# Altium footprint library WA-SMCH.PcbLib: 1 footprints
Each footprint in its own frame and in the unit in brackets; x right, y up, seen from the top. Pads: shape width x height; smd on the part's side, far side on the other; paste and mask are expansions set on the pad; w line width, h text height; cw(c..) or ccw(c..) is an arc to the next point about the centre after c.
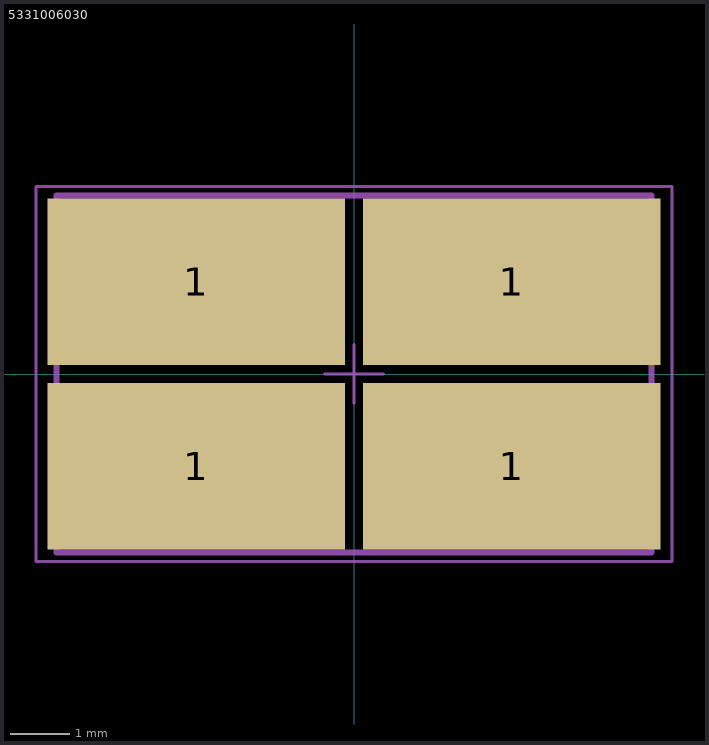
[diagram p0: the footprint, top view; thin cyan lines are the x and y axes]

## 5331006030 [mm]
height 3
pads (4):
  rect 5x2.8 smd paste-2539.97: 1(-2.65,-1.55) 1(-2.65,1.55) 1(2.65,-1.55) 1(2.65,1.55)
Top Paste:
  region: -5.05,2.85 -0.25,2.85 -0.25,0.25 -5.05,0.25
  region: 5.05,2.85 0.25,2.85 0.25,0.25 5.05,0.25
  region: 5.05,-2.85 0.25,-2.85 0.25,-0.25 5.05,-0.25
  region: -5.05,-2.85 -0.25,-2.85 -0.25,-0.25 -5.05,-0.25
Top Designator:
  text ".Designator" at -7.498,-0.5 h1.5
Top Component Outline:
  lines w0.1: -5,-3 -5,3 5,3 5,-3 -5,-3
Top 3D Body:
  lines w0.1: -5,-3 5,-3 5,3 -5,3 -5,-3
Top Courtyard:
  lines w0.05: -0.5,0 0.5,0 ; 0,-0.5 0,0.5 ; -5.35,-3.15 -5.35,3.15 5.35,3.15 5.35,-3.15 -5.35,-3.15
3D body "5331006030.stp": height 3, standoff 0, extent -5,-3 5,3